# Altium schematic symbol library SCH - MCU - TI - TI MSPM0L110X WQFN-16 RTR.SchLib: 1 symbol
Pins are listed as number, name and electrical type; pins without a type are passive.

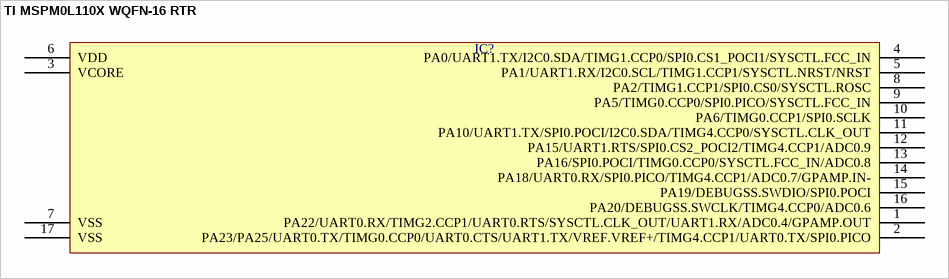
[diagram p0: symbol TI MSPM0L110X WQFN-16 RTR]

## TI MSPM0L110X WQFN-16 RTR
designator IC?  (value not drawn)
pins: 1 PA22/UART0.RX/TIMG2.CCP1/UART0.RTS/SYSCTL.CLK_OUT/UART1.RX/ADC0.4/GPAMP.OUT, 2 PA23/PA25/UART0.TX/TIMG0.CCP0/UART0.CTS/UART1.TX/VREF.VREF+/TIMG4.CCP1/UART0.TX/SPI0.PICO, 3 VCORE, 4 PA0/UART1.TX/I2C0.SDA/TIMG1.CCP0/SPI0.CS1_POCI1/SYSCTL.FCC_IN, 5 PA1/UART1.RX/I2C0.SCL/TIMG1.CCP1/SYSCTL.NRST/NRST, 6 VDD, 7 VSS, 8 PA2/TIMG1.CCP1/SPI0.CS0/SYSCTL.ROSC, 9 PA5/TIMG0.CCP0/SPI0.PICO/SYSCTL.FCC_IN, 10 PA6/TIMG0.CCP1/SPI0.SCLK, 11 PA10/UART1.TX/SPI0.POCI/I2C0.SDA/TIMG4.CCP0/SYSCTL.CLK_OUT, 12 PA15/UART1.RTS/SPI0.CS2_POCI2/TIMG4.CCP1/ADC0.9, 13 PA16/SPI0.POCI/TIMG0.CCP0/SYSCTL.FCC_IN/ADC0.8, 14 PA18/UART0.RX/SPI0.PICO/TIMG4.CCP1/ADC0.7/GPAMP.IN-, 15 PA19/DEBUGSS.SWDIO/SPI0.POCI, 16 PA20/DEBUGSS.SWCLK/TIMG4.CCP0/ADC0.6, 17 VSS